# EAGLE library part 5525DSO-DB001DS (library Sensors)
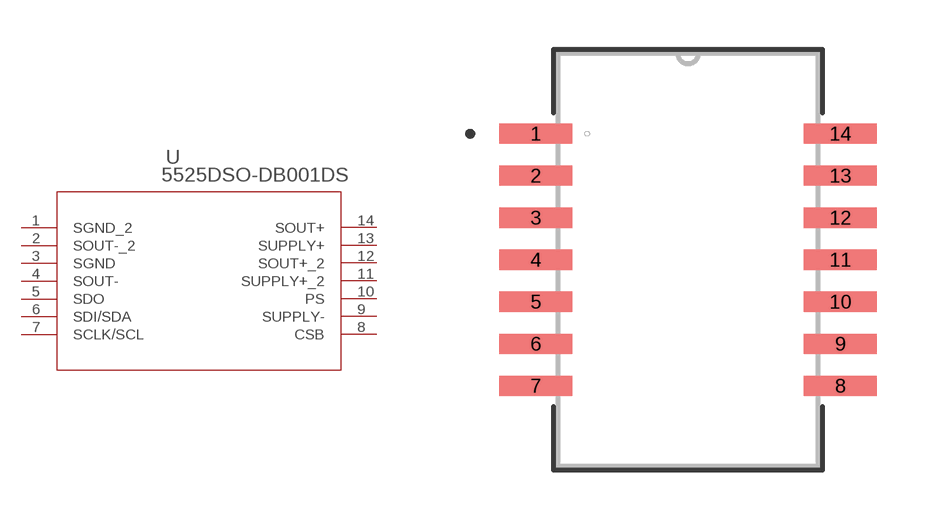
[diagram p4: symbol with the pads of SO14_MS5525DSO; footprint SO14_MS5525DSO]

Designator prefix U

## 5525DSO-DB001DS (BUILT_BY: EMA_UL_Team; CATEGORY: Board Level Pressure Sensors; COPYRIGHT: Copyright (C) 2016 Accelerated Designs. All rights reserved; DESCRIPTION: 1PSID DIGITAL PRESSURE SENSOR; MANUFACTURER_PART_NUMBER: 5525DSO-DB001DS; OUTPUT-SPAN: 24 bit ADC; PACKAGE: SOIC-14; PART_STATUS: active; PRODUCT_DESCRIPTION: 1PSID DIGITAL PRESSURE SENSOR; PRODUCT_TYPE: -; SENSOR_TYPE: Digital Pressure and Altimeter Sensor Modules; SERIES: MEAS MS5525DSO; SUPPLY_VOLTAGE: 1.8  3.6; TE_PART_NUMBER: 5525DSO-DB001DS; VENDOR: TE Connectivity)  [SO14_MS5525DSO]
1  SGND_2  pas
2  SOUT-_2  out
3  SGND  pas
4  SOUT-  out
5  SDO  out
6  SDI/SDA  in
7  SCLK/SCL  pas
8  CSB  pas
9  SUPPLY-  pas
10  PS  pas
11  SUPPLY+_2  pwr
12  SOUT+_2  out
13  SUPPLY+  pwr
14  SOUT+  out

## Footprint SO14_MS5525DSO (pad centres in mm)
smd 2.21 x 0.61: 1 -4.597,3.81; 2 -4.597,2.54; 3 -4.597,1.27; 4 -4.597,0; 5 -4.597,-1.27; 6 -4.597,-2.54; 7 -4.597,-3.81; 8 4.597,-3.81; 9 4.597,-2.54; 10 4.597,-1.27; 11 4.597,0; 12 4.597,1.27; 13 4.597,2.54; 14 4.597,3.81